# Altium schematic symbol library SCH - AMP AUDIO - ANALOG SSM2356CBZ-RL.SchLib: 1 symbol
Pins are listed as number, name and electrical type; pins without a type are passive.

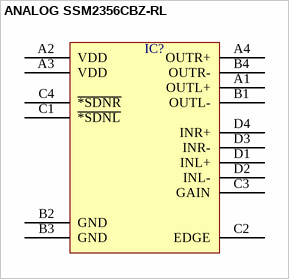
[diagram p0: symbol ANALOG SSM2356CBZ-RL]

## ANALOG SSM2356CBZ-RL
designator IC?  (value not drawn)
pins: A1 OUTL+, A2 VDD, A3 VDD, A4 OUTR+, B1 OUTL-, B2 GND, B3 GND, B4 OUTR-, C1 ~{*SDNL}, C2 EDGE, C3 GAIN, C4 ~{*SDNR}, D1 INL+, D2 INL-, D3 INR-, D4 INR+